# EAGLE library part KAYO_DS1307 (library kxnStandard_IC_Function)
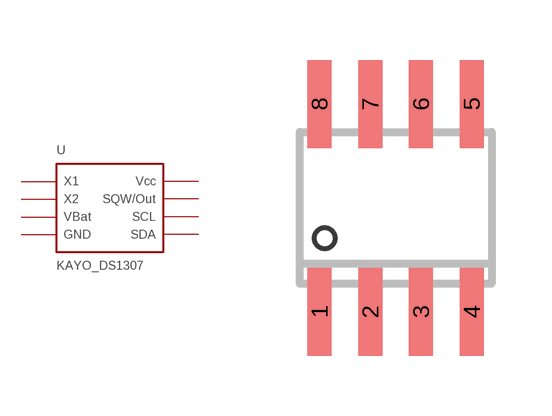
[diagram p7: symbol with the pads of KXN_STANDARD_SOP8; footprint KXN_STANDARD_SOP8]

Designator prefix -

## KAYO_DS1307_ (CC_SHOP: CongCo)  [KXN_STANDARD_SOP8]
1  P$1  in
2  P$2  in
3  P$3
4  P$4  pas
5  P$5
6  P$6
7  P$7  out
8  P$8  pwr

## Footprint KXN_STANDARD_SOP8 (pad centres in mm)
smd 0.6 x 2.2: 1 -1.905,-2.6; 2 -0.635,-2.6; 3 0.635,-2.6; 4 1.905,-2.6; 5 1.905,2.6; 6 0.635,2.6; 7 -0.635,2.6; 8 -1.905,2.6